# EAGLE library part 62000611622 (library Wire-to-Board)
WR-WTB 2.00mm Male Vertical Shrouded Header, 6 Pins=>Code : Con_WTB_2.00_PCB_THT_62000611622 <http://katalog.we-online.de/media/thumbs2/eican/thb_Con_WTB_2.00_PCB_THT_6200xx11622_pf2.jpg> Details see: http://katalog.we-online.de/en/em/620_0xx_116_22 Created 2014-06-05, Karrer Zheng 2014 (C) Würth Elektronik
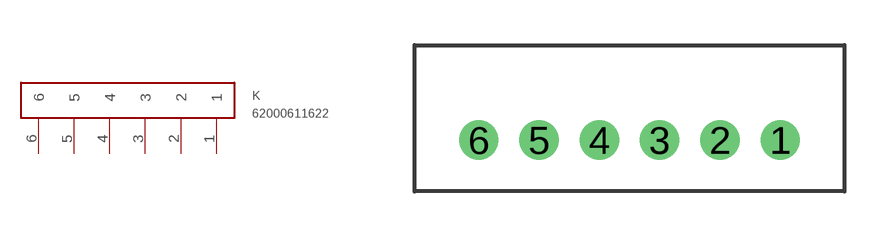
[diagram p25: symbol with the pads of 62000611622; footprint 62000611622]

Designator prefix K

## 62000611622  [62000611622]
1  1
2  2
3  3
4  4
5  5
6  6

## Footprint 62000611622 (pad centres in mm)
WR-WTB 2.00mm Male Vertical Shrouded Header, 6 Pins
drill 0.8: 1 1,0; 2 -1,0; 3 -3,0; 4 -5,0; 5 -7,0; 6 -9,0